# Altium schematic symbol library Schlib_Proton.SchLib: 6 symbols
Pins are listed as number, name and electrical type; pins without a type are passive.

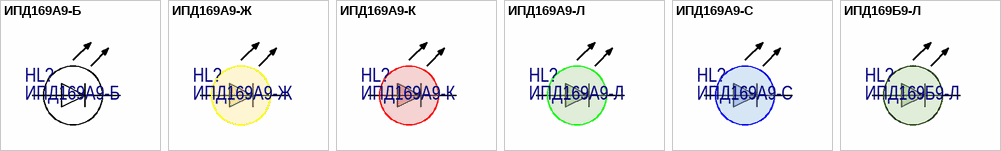
[diagram p0: symbols ИПД169А9-Б to ИПД169Б9-Л]

## ИПД169А9-Б
designator HL?
Manufacturer: АО "Протон"; Color: White; Part Number: ИПД169А9-Б
footprint LED0603W (LED 0603 White)
pins: 1, 2

## ИПД169А9-Ж
designator HL?
Manufacturer: АО "Протон"; Color: Yellow; Part Number: ИПД169А9-Ж
footprint LED0603Y (LED 0603 Yellow)
pins: 1, 2

## ИПД169А9-К
designator HL?
Manufacturer: АО "Протон"; Color: Red; Part Number: ИПД169А9-К
footprint LED0603R (LED 0603 Red)
pins: 1, 2

## ИПД169А9-Л
designator HL?
Manufacturer: АО "Протон"; Color: Light green; Part Number: ИПД169А9-Л
footprint LED0603G (LED 0603 Green)
pins: 1, 2

## ИПД169А9-С
designator HL?
Manufacturer: АО "Протон"; Color: Blue; Part Number: ИПД169А9-С
footprint LED0603B (LED 0603 Blue)
pins: 1, 2

## ИПД169Б9-Л
designator HL?
Manufacturer: АО "Протон"; Color: Green; Part Number: ИПД169Б9-Л
footprint LED0603G (LED 0603 Green)
pins: 1, 2